# Altium footprint library Standard_SMD.PcbLib: 65 footprints (part 3 of 5)
Each footprint in its own frame and in the unit in brackets; x right, y up, seen from the top. Pads: shape width x height; smd on the part's side, far side on the other; paste and mask are expansions set on the pad; w line width, h text height; cw(c..) or ccw(c..) is an arc to the next point about the centre after c.
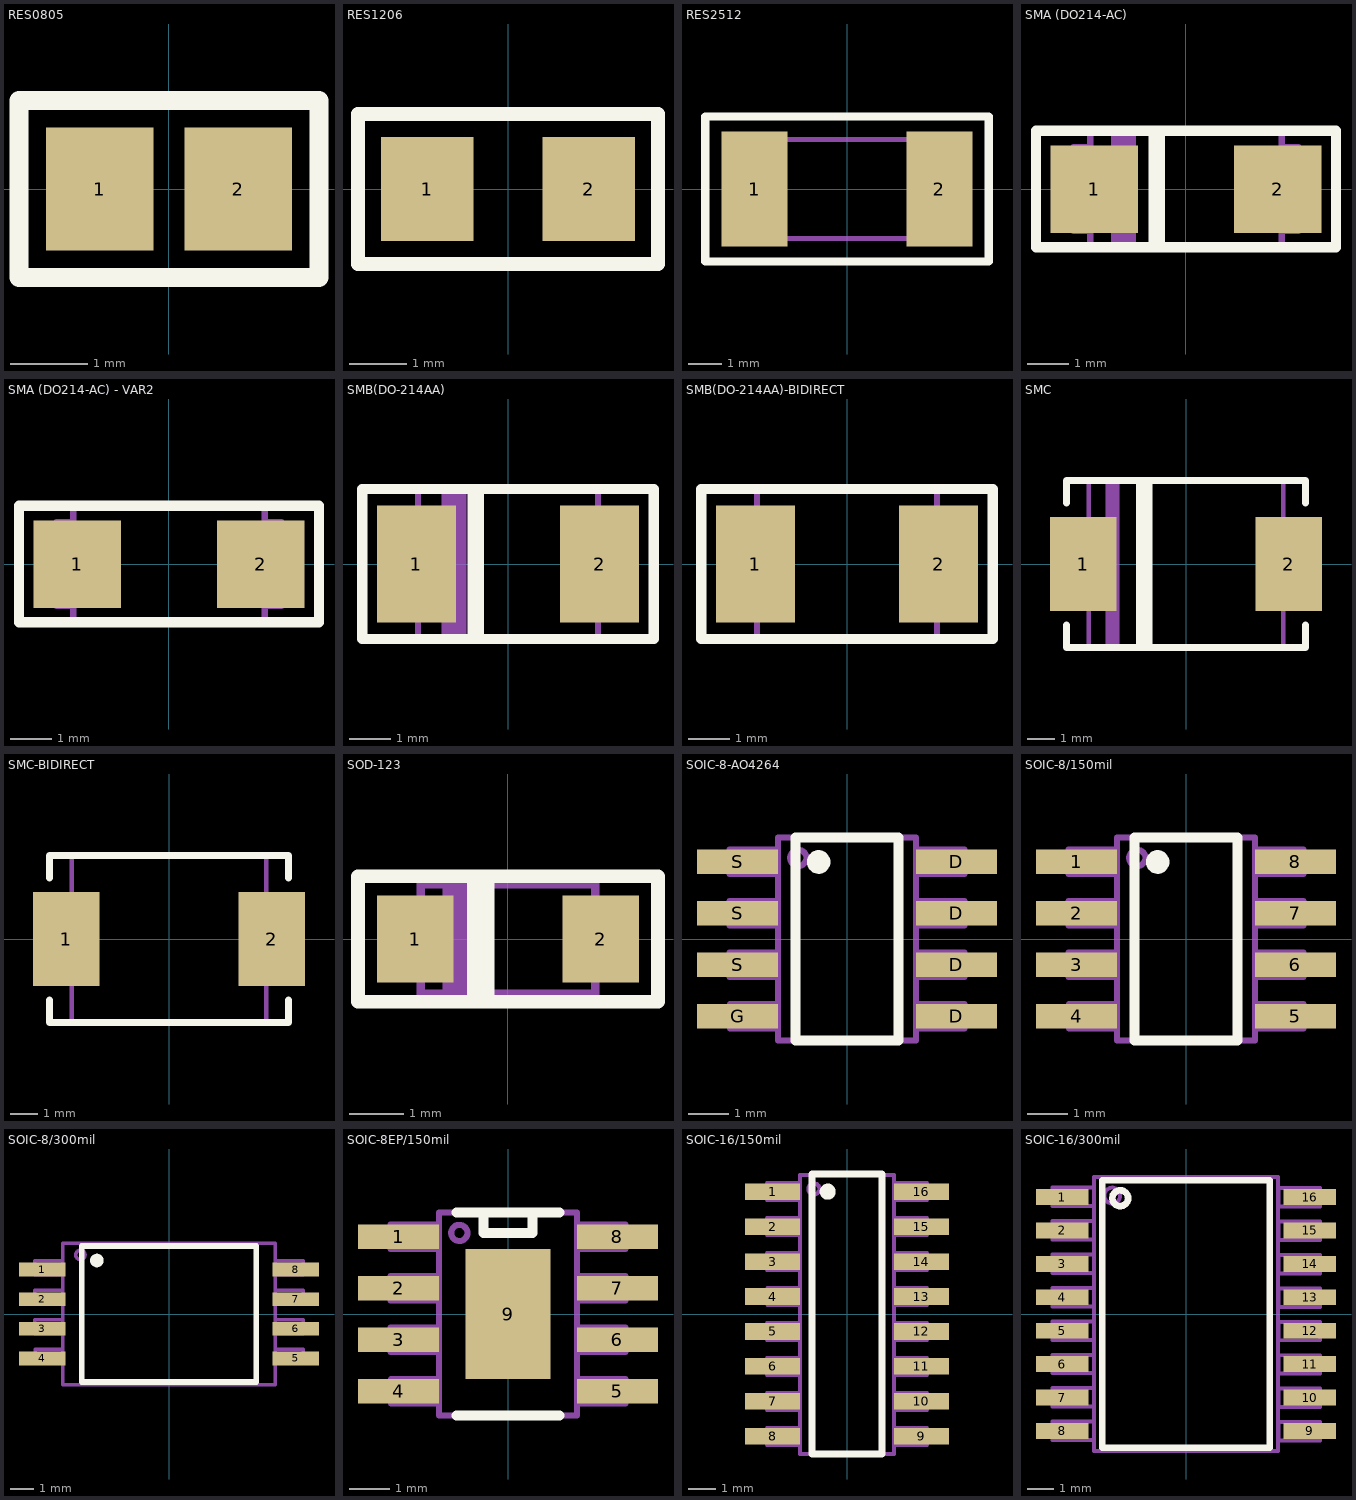
[diagram p2: the footprints below, top view; thin cyan lines are the x and y axes]

## RES0805 [mm]
pads (2):
  rect 1.4x1.6 smd: 1(-0.9,0) 2(0.9,0)
Top Overlay:
  lines w0.25: -1.95,-1.15 1.95,-1.15 1.95,1.15 -1.95,1.15 -1.95,-1.15
Top Assembly:
  lines w0.15: -1.95,-1.15 1.95,-1.15 1.95,1.15 -1.95,1.15 -1.95,-1.15
3D body "res_0805.step": height 0.5, standoff 0, extent -1,-0.6 1,0.6

## RES1206 [mm]
pads (2):
  rect 1.6x1.8 smd: 1(-1.4,0) 2(1.4,0)
Top Overlay:
  lines w0.25: -2.6,-1.3 2.6,-1.3 2.6,1.3 -2.6,1.3 -2.6,-1.3
Top Assembly:
  lines w0.15: -2.6,-1.3 2.6,-1.3 2.6,1.3 -2.6,1.3 -2.6,-1.3
3D body "res_1206.step": height 0.63, standoff 0, extent -1.5,-0.8 1.5,0.8

## RES2512 [mm]
pads (2):
  rect 2x3.5 smd: 1(-2.8,0) 2(2.8,0)
Top Overlay:
  lines w0.25: -4.3,-2.2 4.3,-2.2 4.3,2.2 -4.3,2.2 -4.3,-2.2
Top Assembly:
  lines w0.15: -3.2,-1.5 3.2,-1.5 3.2,1.5 -3.2,1.5 -3.2,-1.5
3D body "res_2512.step": height 0.74, standoff 0.04, extent -3.15,-1.5 3.15,1.5

## SMA (DO214-AC) [mm]
pads (2):
  rect 2.1x2.1 smd: 1(-2.2,0) 2(2.2,0)
Top Overlay:
  rectangle: -0.9,-1.4 -0.5,1.3
  lines w0.25: -3.6,-1.4 3.6,-1.4 3.6,1.4 -3.6,1.4 -3.6,-1.4
Top Assembly:
  rectangle: -1.8,-1.4 -1.2,1.4
  lines w0.15: -2.7,-1 -2.3,-1 -2.3,1 -2.7,1 -2.7,-1 ; -2.3,-1.4 2.3,-1.4 2.3,1.4 -2.3,1.4 -2.3,-1.4 ; 2.3,-1 2.7,-1 2.7,1 2.3,1 2.3,-1
3D body "sma.step": height 2.31, standoff 0.15, extent -2.6,-1.35 2.6,1.35

## SMA (DO214-AC) - VAR2 [mm]
pads (2):
  rect 2.1x2.1 smd: 1(-2.2,0) 2(2.2,0)
Top Overlay:
  lines w0.25: -3.6,-1.4 3.6,-1.4 3.6,1.4 -3.6,1.4 -3.6,-1.4
Top Assembly:
  lines w0.15: -2.7,-1 -2.3,-1 -2.3,1 -2.7,1 -2.7,-1 ; -2.3,-1.4 2.3,-1.4 2.3,1.4 -2.3,1.4 -2.3,-1.4 ; 2.3,-1 2.7,-1 2.7,1 2.3,1 2.3,-1
3D body "sma.step": height 2.31, standoff 0.15, extent -2.6,-1.35 2.6,1.35

## SMB(DO-214AA) [mm]
pads (2):
  rect 1.9x2.8 smd: 1(-2.2,0) 2(2.2,0)
Top Overlay:
  rectangle: -0.974,-1.8 -0.574,1.8
  lines w0.25: -3.5,-1.8 -3.5,1.8 3.5,1.8 3.5,-1.8 -3.5,-1.8
Top Assembly:
  rectangle: -1.6,-1.8 -1,1.8
  lines w0.15: -2.794,-1.143 -2.794,1.143 -2.159,1.143 -2.159,-1.143 -2.794,-1.143 ; -2.159,-1.8 -2.159,1.8 2.159,1.8 2.159,-1.8 -2.159,-1.8 ; 2.159,-1.143 2.159,1.143 2.794,1.143 2.794,-1.143 2.159,-1.143
3D body "smb.step": height 2.28, standoff 0, extent -2.7,-1.81 2.7,1.81

## SMB(DO-214AA)-BIDIRECT [mm]
pads (2):
  rect 1.9x2.8 smd: 1(-2.2,0) 2(2.2,0)
Top Overlay:
  lines w0.25: -3.5,-1.8 3.5,-1.8 3.5,1.8 -3.5,1.8 -3.5,-1.8
Top Assembly:
  lines w0.15: -2.794,-1.143 -2.159,-1.143 -2.159,1.143 -2.794,1.143 -2.794,-1.143 ; -2.159,-1.8 2.159,-1.8 2.159,1.8 -2.159,1.8 -2.159,-1.8 ; 2.159,-1.143 2.794,-1.143 2.794,1.143 2.159,1.143 2.159,-1.143
3D body "smb.step": height 2.28, standoff 0, extent -2.7,-1.81 2.7,1.81

## SMC [mm]
pads (2):
  rect 2.4x3.4 smd: 1(-3.7,0) 2(3.7,0)
Top Overlay:
  rectangle: -1.8,-3 -1.2,2.9
  lines w0.25: -4.3,-2.2 -4.3,-3 4.3,-3 4.3,-2.2 ; -4.3,2.2 -4.3,3 4.3,3 4.3,2.2
Top Assembly:
  rectangle: -2.9,-3 -2.4,3
  lines w0.15: -4.2,-1.562 -3.5,-1.562 -3.5,1.562 -4.2,1.562 -4.2,-1.562 ; -3.5,-3 3.5,-3 3.5,3 -3.5,3 -3.5,-3 ; 3.5,-1.562 4.2,-1.562 4.2,1.562 3.5,1.562 3.5,-1.562
3D body "diom_7.94x5.95.step": height 2.65, standoff 0, extent -4.3,-2.975 4.3,2.975

## SMC-BIDIRECT [mm]
pads (2):
  rect 2.4x3.4 smd: 1(-3.7,0) 2(3.7,0)
Top Overlay:
  lines w0.25: -4.3,-2.2 -4.3,-3 4.3,-3 4.3,-2.2 ; -4.3,2.2 -4.3,3 4.3,3 4.3,2.2
Top Assembly:
  lines w0.15: -4.2,-1.562 -3.5,-1.562 -3.5,1.562 -4.2,1.562 -4.2,-1.562 ; -3.5,-3 3.5,-3 3.5,3 -3.5,3 -3.5,-3 ; 3.5,-1.562 4.2,-1.562 4.2,1.562 3.5,1.562 3.5,-1.562
3D body "diom_7.94x5.95.step": height 2.65, standoff 0, extent -4.3,-2.975 4.3,2.975

## SOD-123 [mm]
pads (2):
  rect 1.4x1.6 smd: 1(-1.7,0) 2(1.7,0)
Top Overlay:
  lines w0.25: -2.75,-1.15 2.75,-1.15 2.75,1.15 -2.75,1.15 -2.75,-1.15
  lines w0.5: -0.5,-1 -0.5,1
Top Assembly:
  rectangle: -1.2,-1 -0.6,1
  lines w0.15: -2.1,-0.5 -1.6,-0.5 -1.6,0.5 -2.1,0.5 -2.1,-0.5 ; -1.6,-1 1.6,-1 1.6,1 -1.6,1 -1.6,-1 ; 1.6,-0.5 2.1,-0.5 2.1,0.5 1.6,0.5 1.6,-0.5
3D body "sod-123.step": height 1.15, standoff 0, extent -1.9,-0.8 1.9,0.8

## SOIC-8-AO4264 [mm]
pads (8):
  rect 2x0.6 smd: D(2.7,-1.905) D(2.7,-0.635) D(2.7,0.635) D(2.7,1.905) G(-2.7,-1.905) S(-2.7,-0.635) S(-2.7,0.635) S(-2.7,1.905)
Top Overlay:
  circle w0.3: c-0.7,1.9 r0.141
  lines w0.25: -1.27,-2.5 1.27,-2.5 1.27,2.5 -1.27,2.5 -1.27,-2.5
Top Assembly:
  circle w0.15: c-1.2,2 r0.2
  lines w0.15: -2.9,-0.935 -1.7,-0.935 -1.7,-0.335 -2.9,-0.335 -2.9,-0.935 ; -2.9,0.335 -1.7,0.335 -1.7,0.935 -2.9,0.935 -2.9,0.335 ; -2.9,1.605 -1.7,1.605 -1.7,2.205 -2.9,2.205 -2.9,1.605 ; -2.885,-2.205 -1.7,-2.205 -1.7,-1.605 -2.885,-1.605 -2.885,-2.205 ; -1.7,-2.5 1.7,-2.5 1.7,2.5 -1.7,2.5 -1.7,-2.5 ; 1.7,-2.205 2.9,-2.205 2.9,-1.605 1.7,-1.605 1.7,-2.205 ; 1.7,-0.935 2.9,-0.935 2.9,-0.335 1.7,-0.335 1.7,-0.935 ; 1.7,0.335 2.9,0.335 2.9,0.935 1.7,0.935 1.7,0.335 ; 1.7,1.605 2.9,1.605 2.9,2.205 1.7,2.205 1.7,1.605
3D body "soic-8_150mil.step": height 1.6, standoff 0.03, extent -3,-2.5 3,2.5

## SOIC-8/150mil [mm]
pads (8):
  rect 2x0.6 smd: 1(-2.7,1.905) 2(-2.7,0.635) 3(-2.7,-0.635) 4(-2.7,-1.905) 5(2.7,-1.905) 6(2.7,-0.635) 7(2.7,0.635) 8(2.7,1.905)
Top Overlay:
  circle w0.3: c-0.7,1.9 r0.141
  lines w0.25: -1.27,-2.5 1.27,-2.5 1.27,2.5 -1.27,2.5 -1.27,-2.5
Top Assembly:
  circle w0.15: c-1.2,2 r0.2
  lines w0.15: -2.9,-0.935 -1.7,-0.935 -1.7,-0.335 -2.9,-0.335 -2.9,-0.935 ; -2.9,0.335 -1.7,0.335 -1.7,0.935 -2.9,0.935 -2.9,0.335 ; -2.9,1.605 -1.7,1.605 -1.7,2.205 -2.9,2.205 -2.9,1.605 ; -2.885,-2.205 -1.7,-2.205 -1.7,-1.605 -2.885,-1.605 -2.885,-2.205 ; -1.7,-2.5 1.7,-2.5 1.7,2.5 -1.7,2.5 -1.7,-2.5 ; 1.7,-2.205 2.9,-2.205 2.9,-1.605 1.7,-1.605 1.7,-2.205 ; 1.7,-0.935 2.9,-0.935 2.9,-0.335 1.7,-0.335 1.7,-0.935 ; 1.7,0.335 2.9,0.335 2.9,0.935 1.7,0.935 1.7,0.335 ; 1.7,1.605 2.9,1.605 2.9,2.205 1.7,2.205 1.7,1.605
3D body "soic-8_150mil.step": height 1.6, standoff 0.03, extent -3,-2.5 3,2.5

## SOIC-8/300mil [mm]
pads (8):
  rect 2x0.6 smd: 1(-5.45,1.905) 2(-5.45,0.635) 3(-5.45,-0.635) 4(-5.45,-1.905) 5(5.45,-1.905) 6(5.45,-0.635) 7(5.45,0.635) 8(5.45,1.905)
Top Overlay:
  circle w0.3: c-3.1,2.3 r0.141
  lines w0.25: -3.75,-2.925 3.75,-2.925 3.75,2.925 -3.75,2.925 -3.75,-2.925
Top Assembly:
  circle w0.15: c-3.81,2.54 r0.2
  lines w0.15: -5.772,-0.854 -5.772,-0.254 -4.572,-0.254 -4.572,-0.854 -5.772,-0.854 ; -5.772,0.416 -5.772,1.016 -4.572,1.016 -4.572,0.416 -5.772,0.416 ; -5.772,1.686 -5.772,2.286 -4.572,2.286 -4.572,1.686 -5.772,1.686 ; -5.757,-2.124 -5.757,-1.524 -4.572,-1.524 -4.572,-2.124 -5.757,-2.124 ; -4.572,-3.048 4.572,-3.048 4.572,3.048 -4.572,3.048 -4.572,-3.048 ; 4.572,-2.124 4.572,-1.524 5.772,-1.524 5.772,-2.124 4.572,-2.124 ; 4.572,-0.854 4.572,-0.254 5.772,-0.254 5.772,-0.854 4.572,-0.854 ; 4.572,0.416 4.572,1.016 5.772,1.016 5.772,0.416 4.572,0.416 ; 4.572,1.686 4.572,2.286 5.772,2.286 5.772,1.686 4.572,1.686
3D body "SO8_W.STEP": height 2.8, standoff 0.1, extent -5.75,-2.95 5.75,2.95

## SOIC-8EP/150mil [mm]
pads (9):
  rect 2x0.6 smd: 1(-2.7,1.905) 2(-2.7,0.635) 3(-2.7,-0.635) 4(-2.7,-1.905) 5(2.7,-1.905) 6(2.7,-0.635) 7(2.7,0.635) 8(2.7,1.905)
  rect 2.1x3.2 smd: 9(0,0)
Top Overlay:
  lines w0.25: -1.27,-2.5 1.27,-2.5 ; -1.27,2.5 1.27,2.5 ; -0.6,2 0.6,2 0.6,2.5 -0.6,2.5 -0.6,2
Top Assembly:
  circle w0.15: c-1.2,2 r0.2
  lines w0.15: -2.9,-0.935 -1.7,-0.935 -1.7,-0.335 -2.9,-0.335 -2.9,-0.935 ; -2.9,0.335 -1.7,0.335 -1.7,0.935 -2.9,0.935 -2.9,0.335 ; -2.9,1.605 -1.7,1.605 -1.7,2.205 -2.9,2.205 -2.9,1.605 ; -2.885,-2.205 -1.7,-2.205 -1.7,-1.605 -2.885,-1.605 -2.885,-2.205 ; -1.7,-2.5 1.7,-2.5 1.7,2.5 -1.7,2.5 -1.7,-2.5 ; 1.7,-2.205 2.9,-2.205 2.9,-1.605 1.7,-1.605 1.7,-2.205 ; 1.7,-0.935 2.9,-0.935 2.9,-0.335 1.7,-0.335 1.7,-0.935 ; 1.7,0.335 2.9,0.335 2.9,0.935 1.7,0.935 1.7,0.335 ; 1.7,1.605 2.9,1.605 2.9,2.205 1.7,2.205 1.7,1.605
3D body "soic-8_150mil.step": height 1.6, standoff 0.03, extent -3,-2.5 3,2.5

## SOIC-16/150mil [mm]
pads (16):
  rect 2x0.6 smd: 1(-2.7,4.445) 2(-2.7,3.175) 3(-2.7,1.905) 4(-2.7,0.635) 5(-2.7,-0.635) 6(-2.7,-1.905) 7(-2.7,-3.175) 8(-2.7,-4.445) 9(2.7,-4.445) 10(2.7,-3.175) 11(2.7,-1.905) 12(2.7,-0.635) 13(2.7,0.635) 14(2.7,1.905) 15(2.7,3.175) 16(2.7,4.445)
Top Overlay:
  circle w0.3: c-0.7,4.44 r0.141
  lines w0.25: -1.27,-5.08 1.27,-5.08 1.27,5.08 -1.27,5.08 -1.27,-5.08
Top Assembly:
  circle w0.15: c-1.2,4.54 r0.2
  lines w0.15: 1.7,0.335 2.9,0.335 2.9,0.935 1.7,0.935 ; 1.7,0.335 1.7,0.935 ; 1.7,0.335 1.7,0.935 ; 1.7,0.335 2.9,0.335 2.9,0.935 1.7,0.935 ; -2.9,-4.745 -1.7,-4.745 -1.7,-4.145 -2.9,-4.145 -2.9,-4.745 ; -2.9,-3.475 -1.7,-3.475 -1.7,-2.875 -2.9,-2.875 -2.9,-3.475 ; -2.9,-2.205 -1.7,-2.205 -1.7,-1.605 -2.9,-1.605 -2.9,-2.205 ; -2.9,-0.935 -1.7,-0.935 -1.7,-0.335 -2.9,-0.335 -2.9,-0.935 ; -2.9,1.605 -2.9,2.205 -1.7,2.205 -1.7,1.605 -2.9,1.605 ; -2.9,2.875 -2.9,3.475 -1.7,3.475 -1.7,2.875 -2.9,2.875 ; -2.9,4.145 -1.7,4.145 -1.7,4.745 -2.9,4.745 -2.9,4.145 ; -2.885,0.335 -2.885,0.935 -1.7,0.935 -1.7,0.335 -2.885,0.335 ; -1.7,-5.08 -1.7,5.04 1.7,5.04 1.7,-5.08 -1.7,-5.08 ; 1.7,-4.745 2.9,-4.745 2.9,-4.145 1.7,-4.145 1.7,-4.745 ; 1.7,-3.475 2.9,-3.475 2.9,-2.875 1.7,-2.875 1.7,-3.475 ; 1.7,-2.205 2.9,-2.205 2.9,-1.605 1.7,-1.605 1.7,-2.205 ; 1.7,-0.935 2.9,-0.935 2.9,-0.335 1.7,-0.335 1.7,-0.935 ; 1.7,1.605 1.7,2.205 2.9,2.205 2.9,1.605 1.7,1.605 ; 1.7,2.875 1.7,3.475 2.9,3.475 2.9,2.875 1.7,2.875 ; 1.7,4.145 2.9,4.145 2.9,4.745 1.7,4.745 1.7,4.145
3D body "soic-16_150mil.step": height 1.58, standoff 0.03, extent -3,-5 3,5

## SOIC-16/300mil [mm]
pads (16):
  rect 2x0.6 smd: 1(-4.7,4.445) 2(-4.7,3.175) 3(-4.7,1.905) 4(-4.7,0.635) 5(-4.7,-0.635) 6(-4.7,-1.905) 7(-4.7,-3.175) 8(-4.7,-4.445) 9(4.7,-4.445) 10(4.7,-3.175) 11(4.7,-1.905) 12(4.7,-0.635) 13(4.7,0.635) 14(4.7,1.905) 15(4.7,3.175) 16(4.7,4.445)
Top Overlay:
  circle w0.25: c-2.5,4.4 r0.3
  lines w0.25: -3.175,-5.08 3.175,-5.08 3.175,5.08 -3.175,5.08 -3.175,-5.08
Top Assembly:
  circle w0.15: c-2.8,4.5 r0.3
  lines w0.15: -5.08,-4.79 -3.5,-4.79 -3.5,-4.09 -5.08,-4.09 -5.08,-4.79 ; -5.08,-3.52 -3.5,-3.52 -3.5,-2.82 -5.08,-2.82 -5.08,-3.52 ; -5.08,-2.25 -3.5,-2.25 -3.5,-1.55 -5.08,-1.55 -5.08,-2.25 ; -5.08,-0.98 -3.5,-0.98 -3.5,-0.28 -5.08,-0.28 -5.08,-0.98 ; -5.08,0.29 -3.5,0.29 -3.5,0.99 -5.08,0.99 -5.08,0.29 ; -5.08,1.56 -3.5,1.56 -3.5,2.26 -5.08,2.26 -5.08,1.56 ; -5.08,2.83 -3.5,2.83 -3.5,3.53 -5.08,3.53 -5.08,2.83 ; -5.08,4.1 -3.5,4.1 -3.5,4.8 -5.08,4.8 -5.08,4.1 ; -3.5,-5.2 3.5,-5.2 3.5,5.2 -3.5,5.2 -3.5,-5.2 ; 3.511,-4.808 5.091,-4.808 5.091,-4.108 3.511,-4.108 3.511,-4.808 ; 3.511,-3.538 5.091,-3.538 5.091,-2.838 3.511,-2.838 3.511,-3.538 ; 3.511,-2.268 5.091,-2.268 5.091,-1.568 3.511,-1.568 3.511,-2.268 ; 3.511,-0.998 5.091,-0.998 5.091,-0.298 3.511,-0.298 3.511,-0.998 ; 3.511,0.272 5.091,0.272 5.091,0.972 3.511,0.972 3.511,0.272 ; 3.511,1.542 5.091,1.542 5.091,2.242 3.511,2.242 3.511,1.542 ; 3.511,2.812 5.091,2.812 5.091,3.512 3.511,3.512 3.511,2.812 ; 3.511,4.082 5.091,4.082 5.091,4.782 3.511,4.782 3.511,4.082
3D body "soic-16_300mil.step": height 1.58, standoff 0.03, extent -5,-5.2 5,5.2